# EAGLE library part CD4081BEE4 (library CD4081BEE4)
AND Gate Quad 2-IN CMOS 14-Pin PDIP Source: Datasheet <https://datasheet.datasheetarchive.com/originals/distributors/Datasheets-SFU2/DSASFU100028830.pdf>
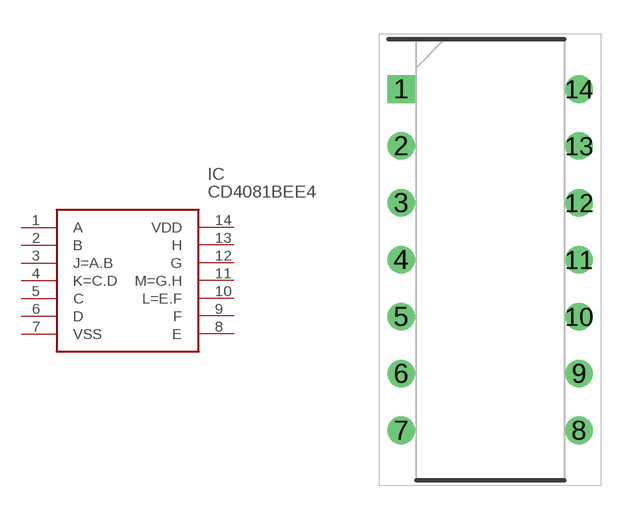
[diagram p0: symbol with the pads of DIP794W53P254L1930H508Q14N; footprint DIP794W53P254L1930H508Q14N]

Designator prefix IC

## CD4081BEE4 (Description: AND Gate Quad 2-IN CMOS 14-Pin PDIP; Height: 5.08mm; Manufacturer_Name: Texas Instruments; Manufacturer_Part_Number: CD4081BEE4; Mouser_Part_Number: 595-CD4081BEE4; Mouser_Price-Stock: https://www.mouser.co.uk/ProductDetail/Texas-Instruments/CD4081BEE4?qs=HTr%252BoA4jRiloxIEWd2QErQ%3D%3D)  [DIP794W53P254L1930H508Q14N]
1  A
2  B
3  J=A.B
4  K=C.D
5  C
6  D
7  VSS
8  E
9  F
10  L=E.F
11  M=G.H
12  G
13  H
14  VDD

## Footprint DIP794W53P254L1930H508Q14N (pad centres in mm)
N (R-PDIP-T)
drill 0.73 pad 1.13 square: 1 -3.97,7.62
drill 0.73 pad 1.13: 2 -3.97,5.08; 3 -3.97,2.54; 4 -3.97,0; 5 -3.97,-2.54; 6 -3.97,-5.08; 7 -3.97,-7.62; 8 3.97,-7.62; 9 3.97,-5.08; 10 3.97,-2.54; 11 3.97,0; 12 3.97,2.54; 13 3.97,5.08; 14 3.97,7.62